# Altium schematic symbol library IC_LED_DRIVERS.SchLib: 4 symbols
Pins are listed as number, name and electrical type; pins without a type are passive.

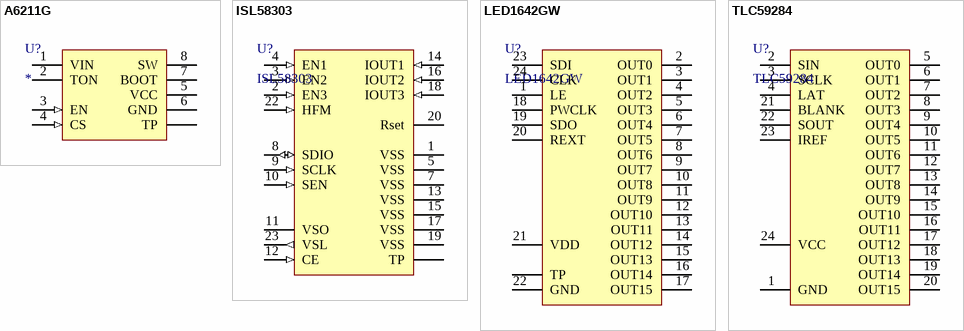
[diagram p0: symbols A6211G to TLC59284]

## A6211G
designator U?
Constant-Current 3-Ampere PWM Dimmable / Buck Regulator LED Driver; Current_A: 3; Voltage_V: 48; BOMString: A6211GLJTR; Supplier 1: Digi-Key; Supplier Part Number 1: 620-1477-1-ND; Name: A6211GLJTR
footprint SOIC-8_TP
footprint SOIC-8
pins: 0 TP (power), 1 VIN (power), 2 TON, 3 EN (in), 4 CS (in), 5 VCC (power), 6 GND (power), 7 BOOT (power), 8 SW (power)

## ISL58303
designator U?
800mA Triple Output Laser Diode Driver; supplyVoltage: 3.0 - 5.5 V; maxSupplyCurrent: 20 mA; maxVoltageOnIout: 6 V; logicInputVoltageEN: 3 V; currentIntoRset: 5 mA; tresholdVoltageOnHFM: 1.5 V; HelpURL: https://vk.com/doc81326128_439052552?hash=4a32a063716169a0a7&dl=53ba403179b6df9738
footprint QFN-24-0.5-4x4
footprint QFN-24-0.5-4x4_TP
pins: 0 TP (power), 1 VSS (power), 2 EN3 (in), 3 EN2 (in), 4 EN1 (in), 5 VSS (power), 7 VSS (power), 8 SDIO (io), 9 SCLK (in), 10 SEN (in), 11 VSO (power), 12 CE (in), 13 VSS (power), 14 IOUT1 (in), 15 VSS (power), 16 IOUT2 (in), 17 VSS (power), 18 IOUT3 (in), 19 VSS (power), 20 Rset, 22 HFM (in), 23 VSL (out)

## LED1642GW
designator U?
16-Ch LED driver with error detection current gain control and 12/16-bit PWM brightness control; Frequency, MHz: 30; HelpURL: http://www.st.com/content/ccc/resource/technical/document/datasheet/ae/9b/e2/7c/7d/66/41/08/DM00080246.pdf/files/DM00080246.pdf/jcr:content/translations/en.DM00080246.pdf; Price(1): 1.45; Price(10K): 0.56924; Supplier: https://www.digikey.com/product-detail/en/stmicroelectronics/LED1642GWQTR/497-14029-2-ND/4441171; BOMString: LED1642GW; Name: LED1642GW
footprint QFN-24-0.5-4x4_TP
pins: 0 TP, 1 LE, 2 OUT0, 3 OUT1, 4 OUT2, 5 OUT3, 6 OUT4, 7 OUT5, 8 OUT6, 9 OUT7, 10 OUT8, 11 OUT9, 12 OUT10, 13 OUT11, 14 OUT12, 15 OUT13, 16 OUT14, 17 OUT15, 18 PWCLK, 19 SDO, 20 REXT, 21 VDD, 22 GND, 23 SDI, 24 CLK

## TLC59284
designator U?
16-Channel Constant-Current LED Driver with Switching Delay; Datasheet: http://www.ti.com/lit/ds/symlink/tlc59284.pdf
footprint SSOP-24-0.635 (SOP, 24-Leads, Body 8,65x4,00mm, Pitch 0,64mm, IPC High Density)
pins: 1 GND, 2 SIN, 3 SCLK, 4 LAT, 5 OUT0, 6 OUT1, 7 OUT2, 8 OUT3, 9 OUT4, 10 OUT5, 11 OUT6, 12 OUT7, 13 OUT8, 14 OUT9, 15 OUT10, 16 OUT11, 17 OUT12, 18 OUT13, 19 OUT14, 20 OUT15, 21 BLANK, 22 SOUT, 23 IREF, 24 VCC